# EAGLE library part SSM2167-1RMZ-R7 (library Analog Devices)
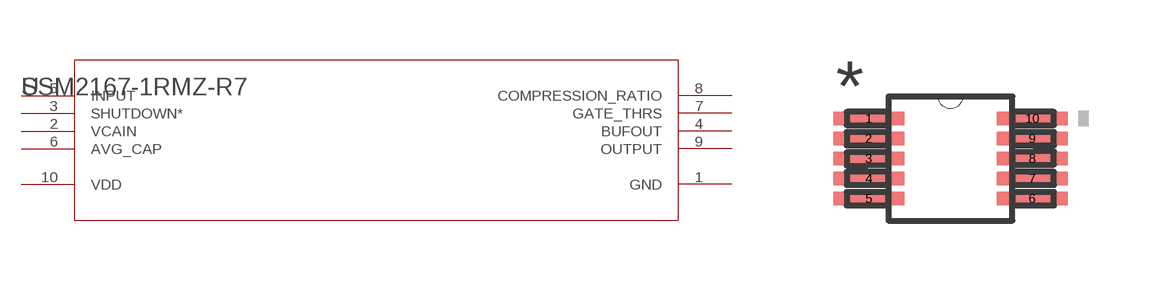
[diagram p11: symbol with the pads of RM_10; footprint RM_10]

Designator prefix U

## SSM2167-1RMZ-R7 (MANUFACTURER_PART_NUMBER: SSM2167-1RMZ-R7; VENDOR: Vendor)  [RM_10]
1  GND  pas
2  VCAIN  pas
3  SHUTDOWN*  pas
4  BUFOUT  pas
5  INPUT  pas
6  AVG_CAP  pas
7  GATE_THRS  pas
8  COMPRESSION_RATIO  pas
9  OUTPUT  pas
10  VDD  pwr

## Footprint RM_10 (pad centres in mm)
smd 1.778 x 0.33: 1 -2.045,1; 2 -2.045,0.5; 3 -2.045,0; 4 -2.045,-0.5; 5 -2.045,-1; 6 2.045,-1; 7 2.045,-0.5; 8 2.045,0; 9 2.045,0.5; 10 2.045,1